# EAGLE library part MIC5219 (library SSI)
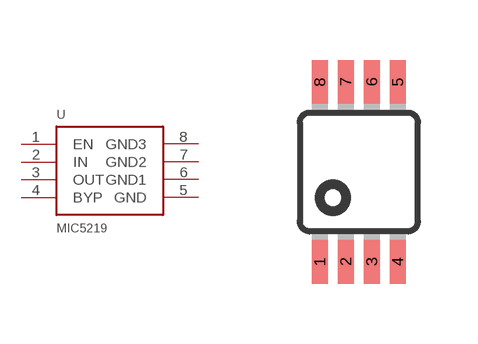
[diagram p8: symbol with the pads of MSOP-8; footprint MSOP-8]

Designator prefix -

## MIC5219  [MSOP-8]
1  EN
2  IN
3  OUT
4  BYP
5  GND
6  GND1
7  GND2
8  GND3

## Footprint MSOP-8 (pad centres in mm)
smd 0.4 x 1.1: 1 -0.975,-2.25; 2 -0.325,-2.25; 3 0.325,-2.25; 4 0.975,-2.25; 5 0.975,2.25; 6 0.325,2.25; 7 -0.325,2.25; 8 -0.975,2.25